# EAGLE library part SI4844-A10 (library 00_koarl-div)
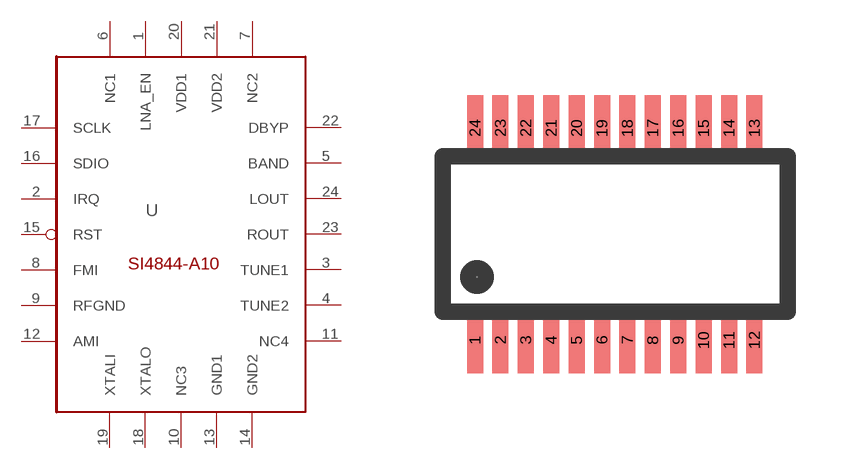
[diagram p13: symbol with the pads of SSOP24; footprint SSOP24]

Designator prefix -

## SI4844-A10  [SSOP24]
1  LNA_EN  in
2  IRQ  out
3  TUNE1
4  TUNE2
5  BAND
6  NC1  pas
7  NC2  pas
8  FMI
9  RFGND  pwr
10  NC3  pas
11  NC4  pas
12  AMI
13  GND1  pwr
14  GND2  pwr
15  RST
16  SDIO
17  SCLK
18  XTALO  out
19  XTALI  in
20  VDD1  pwr
21  VDD2  pwr
22  DBYP
23  ROUT
24  LOUT

## Footprint SSOP24 (pad centres in mm)
smd 0.4 x 1.65: 1 0,0; 2 0.635,0; 3 1.27,0; 4 1.905,0; 5 2.54,0; 6 3.175,0; 7 3.81,0; 8 4.445,0; 9 5.08,0; 10 5.715,0; 11 6.35,0; 12 6.985,0; 13 6.985,5.3; 14 6.35,5.3; 15 5.715,5.3; 16 5.08,5.3; 17 4.445,5.3; 18 3.81,5.3; 19 3.175,5.3; 20 2.54,5.3; 21 1.905,5.3; 22 1.27,5.3; 23 0.635,5.3; 24 0,5.3